# EAGLE library part DMN63D8LDW-7 (library T02_nocLock)
Dual MOSFET 2N-CH 30V 220MA SOT363
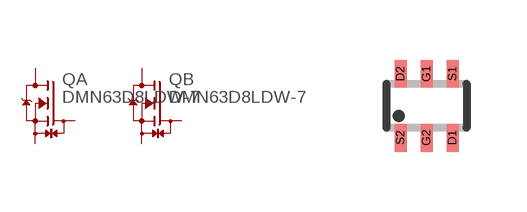
[diagram p1: symbol with the pads of SOT363; footprint SOT363]

Designator prefix Q; gates A=DMN63D8LDW-7 B=DMN63D8LDW-7

## DMN63D8LDW-7  [SOT363]
D1  A:D  pas
D2  B:D  pas
G1  A:G  pas
G2  B:G  pas
S1  A:S  pas
S2  B:S  pas

## Footprint SOT363 (pad centres in mm)
smd 0.3 x 0.7: D1 -0.62,-0.8; D2 -1.92,0.8; G1 -1.27,0.8; G2 -1.27,-0.8; S1 -0.62,0.8; S2 -1.92,-0.8